# Altium footprint library ART-Pi_STM32H750_COPY.PcbLib: 50 footprints (part 2 of 4)
Each footprint in its own frame and in the unit in brackets; x right, y up, seen from the top. Pads: shape width x height; smd on the part's side, far side on the other; paste and mask are expansions set on the pad; w line width, h text height; cw(c..) or ccw(c..) is an arc to the next point about the centre after c.
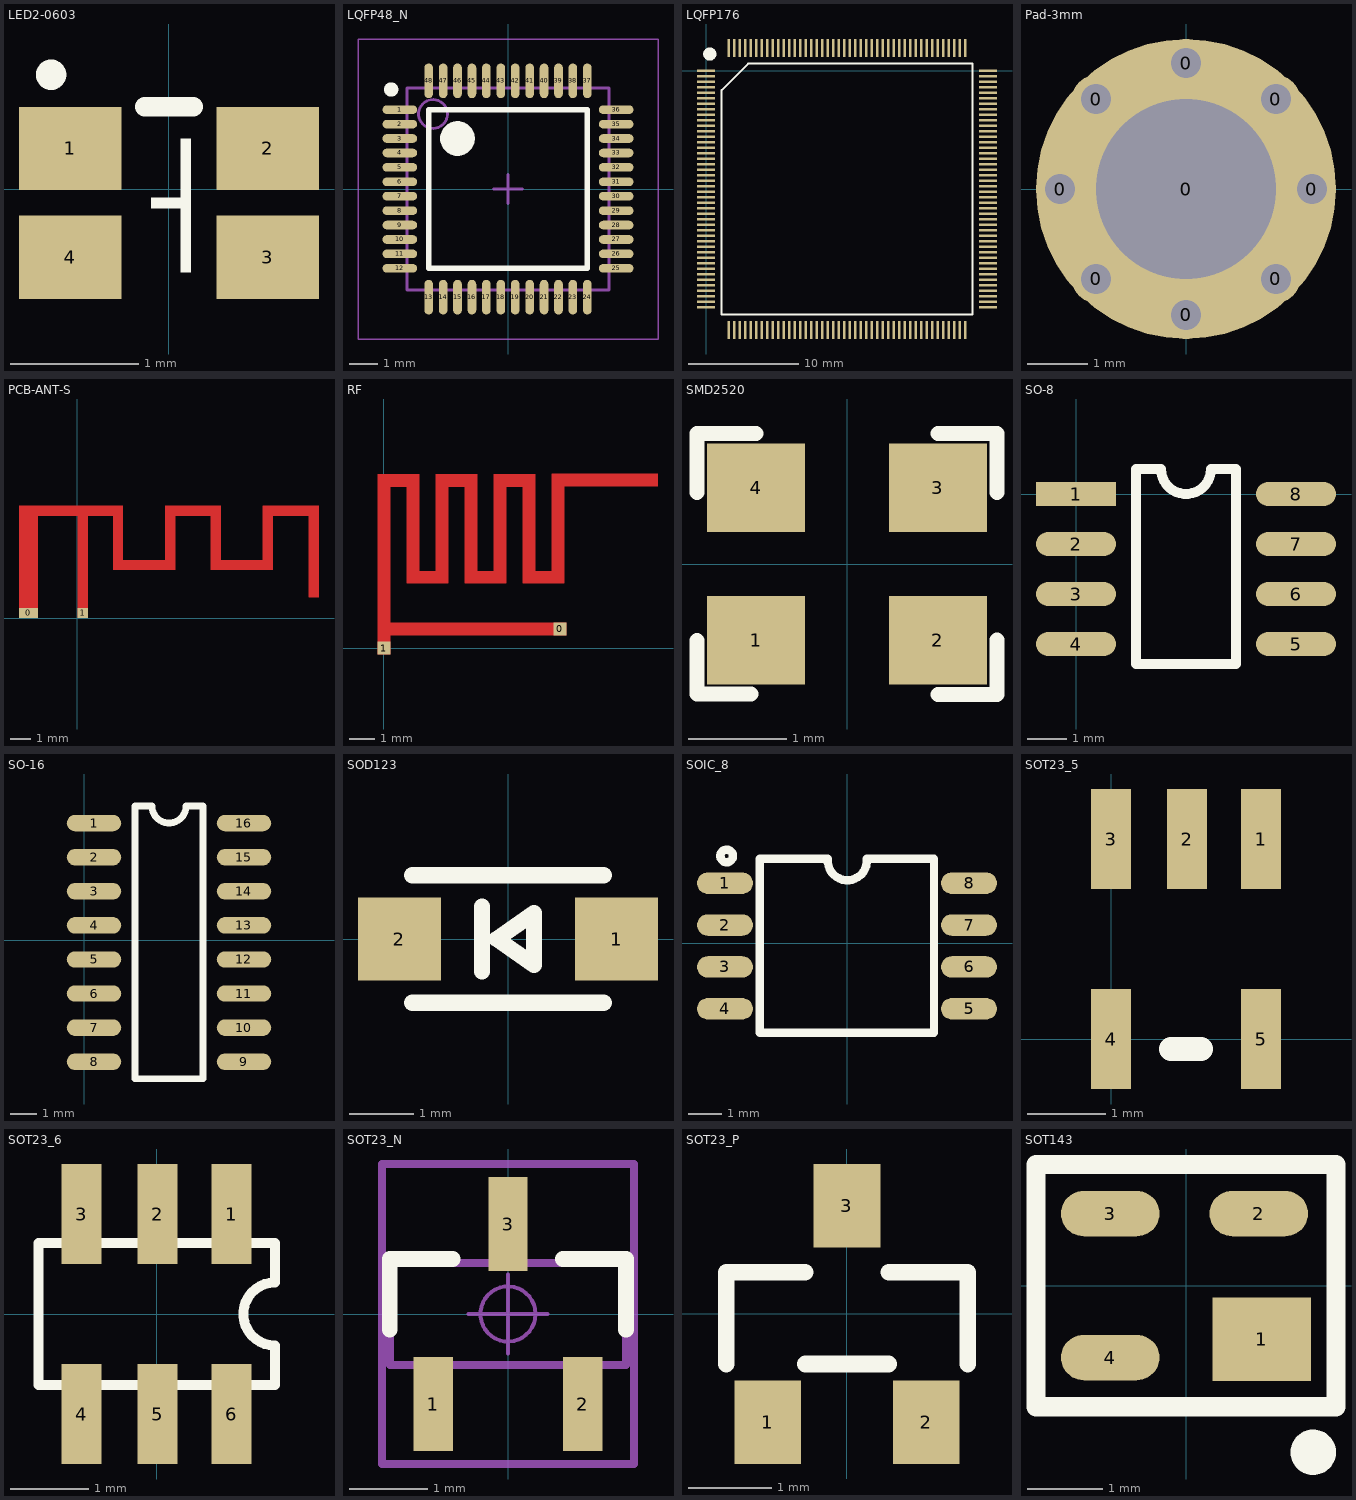
[diagram p1: the footprints below, top view; thin cyan lines are the x and y axes]

## LED2-0603 [mm] "LED-ARRAY-SMD_0603-4P-L1.6-W1.5-TL-RD"
pads (4):
  rect 0.8x0.65 smd: 1(-0.77,0.317) 2(0.77,0.317) 3(0.769,-0.533) 4(-0.77,-0.533)
Top Overlay:
  circle w0.152: c-0.92,0.892 r0.042
  region: 0.09,0.392 0.17,0.392 0.17,-0.648 0.09,-0.648
  region: -0.14,-0.068 0.1,-0.068 0.1,-0.148 -0.14,-0.148
  lines w0.152: -0.19,0.642 0.19,0.642
3D body "led0603_RED.STEP": height 1.1, standoff 0, extent -0.81,-0.121 0.81,0.679
3D body "led0603_GRE.STEP": height 1.1, standoff 0, extent -0.81,-0.908 0.81,-0.108

## LQFP48_N [mm] "Thin QFP, 48-Leads, Body 7x7mm, Pitch 0.5mm, IPC Medium Density"
height 1.6
pads (48):
  oval 1.2x0.3 smd: 1(-3.75,2.75) 2(-3.75,2.25) 3(-3.75,1.75) 4(-3.75,1.25) 5(-3.75,0.75) 6(-3.75,0.25) 7(-3.75,-0.25) 8(-3.75,-0.75) 9(-3.75,-1.25) 10(-3.75,-1.75) 11(-3.75,-2.25) 12(-3.75,-2.75) 25(3.75,-2.75) 26(3.75,-2.25) 27(3.75,-1.75) 28(3.75,-1.25) 29(3.75,-0.75) 30(3.75,-0.25) 31(3.75,0.25) 32(3.75,0.75) 33(3.75,1.25) 34(3.75,1.75) 35(3.75,2.25) 36(3.75,2.75)
  oval 0.3x1.2 smd: 13(-2.75,-3.75) 14(-2.25,-3.75) 15(-1.75,-3.75) 16(-1.25,-3.75) 17(-0.75,-3.75) 18(-0.25,-3.75) 19(0.25,-3.75) 20(0.75,-3.75) 21(1.25,-3.75) 22(1.75,-3.75) 23(2.25,-3.75) 24(2.75,-3.75) 37(2.75,3.75) 38(2.25,3.75) 39(1.75,3.75) 40(1.25,3.75) 41(0.75,3.75) 42(0.25,3.75) 43(-0.25,3.75) 44(-0.75,3.75) 45(-1.25,3.75) 46(-1.75,3.75) 47(-2.25,3.75) 48(-2.75,3.75)
Top Overlay:
  circle w0.6: c-1.75,1.75 r0.3
  circle w0.25: c-4.05,3.45 r0.125
  lines w0.2: -2.75,-2.75 2.75,-2.75 2.75,2.75 -2.75,2.75 -2.75,-2.75
Mechanical 13:
  circle w0.1: c-2.6,2.6 r0.5
  lines w0.1: -3.5,-3.5 3.5,-3.5 3.5,3.5 -3.5,3.5 -3.5,-3.5
Mechanical 15:
  lines w0.05: -5.2,-5.2 5.2,-5.2 5.2,5.2 -5.2,5.2 -5.2,-5.2
  lines w0.1: -0.5,0 0.5,0 ; 0,-0.5 0,0.5
3D body "LQFP48-7x7-0_50.STEP": height 1.46, standoff 0.01, extent -4.475,-4.5 4.525,4.5

## LQFP176 [mm]
pads (176):
  rect 1.65x0.254 smd: 1(0,0) 2(0,-0.5) 3(0,-1) 4(0,-1.5) 5(0,-2) 6(0,-2.5) 7(0,-3) 8(0,-3.5) 9(0,-4) 10(0,-4.5) 11(0,-5) 12(0,-5.5) 13(0,-6) 14(0,-6.5) 15(0,-7) 16(0,-7.5) 17(0,-8) 18(0,-8.5) 19(0,-9) 20(0,-9.5) 21(0,-10) 22(0,-10.5) 23(0,-11) 24(0,-11.5) 25(0,-12) 26(0,-12.5) 27(0,-13) 28(0,-13.5) 29(0,-14) 30(0,-14.5) 31(0,-15) 32(0,-15.5) 33(0,-16) 34(0,-16.5) 35(0,-17) 36(0,-17.5) 37(0,-18) 38(0,-18.5) 39(0,-19) 40(0,-19.5) 41(0,-20) 42(0,-20.5) 43(0,-21) 44(0,-21.5) 89(25.631,-21.5) 90(25.631,-21) 91(25.631,-20.5) 92(25.631,-20) 93(25.631,-19.5) 94(25.631,-19) 95(25.631,-18.5) 96(25.631,-18) 97(25.631,-17.5) 98(25.631,-17) 99(25.631,-16.5) 100(25.631,-16) 101(25.631,-15.5) 102(25.631,-15) 103(25.631,-14.5) 104(25.631,-14) 105(25.631,-13.5) 106(25.631,-13) 107(25.631,-12.5) 108(25.631,-12) 109(25.631,-11.5) 110(25.631,-11) 111(25.631,-10.5) 112(25.631,-10) 113(25.631,-9.5) 114(25.631,-9) 115(25.631,-8.5) 116(25.631,-8) 117(25.631,-7.5) 118(25.631,-7) 119(25.631,-6.5) 120(25.631,-6) 121(25.631,-5.5) 122(25.631,-5) 123(25.631,-4.5) 124(25.631,-4) 125(25.631,-3.5) 126(25.631,-3) 127(25.631,-2.5) 128(25.631,-2) 129(25.631,-1.5) 130(25.631,-1) 131(25.631,-0.5) 132(25.631,0)
  rect 0.254x1.65 smd: 45(2.065,-23.566) 46(2.566,-23.566) 47(3.066,-23.566) 48(3.565,-23.566) 49(4.066,-23.566) 50(4.565,-23.566) 51(5.066,-23.566) 52(5.565,-23.566) 53(6.066,-23.566) 54(6.565,-23.566) 55(7.066,-23.566) 56(7.565,-23.566) 57(8.066,-23.566) 58(8.565,-23.566) 59(9.066,-23.566) 60(9.565,-23.566) 61(10.066,-23.566) 62(10.565,-23.566) 63(11.066,-23.566) 64(11.565,-23.566) 65(12.066,-23.566) 66(12.565,-23.566) 67(13.066,-23.566) 68(13.565,-23.566) 69(14.066,-23.566) 70(14.565,-23.566) 71(15.066,-23.566) 72(15.566,-23.566) 73(16.066,-23.566) 74(16.566,-23.566) 75(17.065,-23.566) 76(17.566,-23.566) 77(18.065,-23.566) 78(18.566,-23.566) 79(19.065,-23.566) 80(19.566,-23.566) 81(20.065,-23.566) 82(20.566,-23.566) 83(21.065,-23.566) 84(21.566,-23.566) 85(22.065,-23.566) 86(22.566,-23.566) 87(23.065,-23.566) 88(23.566,-23.566) 133(23.566,2.065) 134(23.065,2.065) 135(22.566,2.065) 136(22.065,2.065) 137(21.566,2.065) 138(21.065,2.065) 139(20.566,2.065) 140(20.065,2.065) 141(19.566,2.065) 142(19.065,2.065) 143(18.566,2.065) 144(18.065,2.065) 145(17.566,2.065) 146(17.065,2.065) 147(16.566,2.065) 148(16.066,2.065) 149(15.566,2.065) 150(15.066,2.065) 151(14.565,2.065) 152(14.066,2.065) 153(13.565,2.065) 154(13.066,2.065) 155(12.565,2.065) 156(12.066,2.065) 157(11.565,2.065) 158(11.066,2.065) 159(10.565,2.065) 160(10.066,2.065) 161(9.565,2.065) 162(9.066,2.065) 163(8.565,2.065) 164(8.066,2.065) 165(7.565,2.065) 166(7.066,2.065) 167(6.565,2.065) 168(6.066,2.065) 169(5.565,2.065) 170(5.066,2.065) 171(4.565,2.065) 172(4.066,2.065) 173(3.565,2.065) 174(3.066,2.065) 175(2.566,2.065) 176(2.065,2.065)
Top Overlay:
  circle w0.6: c0.335,1.524 r0.3
  lines w0.2: 1.415,-22.15 24.215,-22.15 24.215,0.65 3.825,0.65 1.415,-1.76 1.415,-22.15

## Pad-3mm [mm] "Socket-3*5mm"
pads (9):
  round 0.8 hole 0.5: 0(-2.1,0) 0(-1.5,-1.5) 0(-1.5,1.5) 0(0,-2.1) 0(0,2.1) 0(1.5,-1.5) 0(1.5,1.5) 0(2.1,0)
  round 5 hole 3: 0(0,0)

## PCB-ANT-S [mm] "PCB-ANT-2.4G-S"
pads (2):
  rect 0.9x0.5 smd: 0(-2.35,0.25)
  rect 0.5x0.5 smd: 1(0.25,0.25)
Top Layer:
  rectangle: 0,0 0.5,4.9
  rectangle: -2.8,4.9 2.2,5.4
  rectangle: -2.8,0 -1.9,4.9
  rectangle: 1.7,2.3 2.2,4.9
  rectangle: 2.2,2.3 4.2,2.8
  rectangle: 4.2,2.3 4.7,4.9
  rectangle: 4.2,4.9 6.9,5.4
  rectangle: 6.4,2.3 6.9,4.9
  rectangle: 8.9,4.9 11.6,5.4
  rectangle: 8.9,2.3 9.4,4.9
  rectangle: 6.9,2.3 8.9,2.8
  rectangle: 11.1,1 11.6,4.9

## RF [mil]
pads (2):
  rect 20x20 smd paste+0 mask+0: 0(273,30) 1(0,0)
Top Layer:
  rectangle: 170,250 235,270
  region: 235,100 235,270 215,270 215,100
  rectangle: 215,100 280,120
  region: 280,100 280,270 260,270 260,100
  rectangle: 80,250 145,270
  region: 145,100 145,270 125,270 125,100
  rectangle: 125,100 190,120
  region: 190,100 190,270 170,270 170,100
  region: 100,100 100,270 80,270 80,100
  rectangle: 35,100 100,120
  region: 55,100 55,270 35,270 35,100
  rectangle: -10,250 55,270
  rectangle: -10,-10 10,270
  region: 425,271 260,271 260,251 425,251
  region: 283,40 -10,40 -10,20 283,20
Top Solder:
  region: 283,40 -10,40 -10,20 283,20
  region: 425,271 260,271 260,251 425,251
  region: 280,100 280,270 260,270 260,100
  rectangle: 215,100 280,120
  region: 235,100 235,270 215,270 215,100
  rectangle: 170,250 235,270
  region: 190,100 190,270 170,270 170,100
  rectangle: 125,100 190,120
  region: 145,100 145,270 125,270 125,100
  rectangle: 80,250 145,270
  region: 100,100 100,270 80,270 80,100
  rectangle: 35,100 100,120
  region: 55,100 55,270 35,270 35,100
  rectangle: -10,250 55,270
  rectangle: -10,-10 10,270

## SMD2520 [mm]
pads (4):
  rect 1x0.9 smd: 1(-0.925,-0.775) 2(0.925,-0.775) 3(0.925,0.775) 4(-0.925,0.775)
Top Overlay:
  lines w0.152: -1.525,-0.775 -1.525,-1.324 -0.976,-1.324 ; -1.525,0.725 -1.525,1.325 -0.925,1.325 ; 0.925,-1.325 1.525,-1.325 1.525,-0.775 ; 0.925,1.325 1.525,1.325 1.525,0.725
3D body "TSX3225-4P.STEP": height 0.6, standoff 0, extent -1.549,-1.295 1.651,1.205

## SO-8 [mil]
pads (8):
  rect 80x24 smd: 1(0,0)
  oval 80x24 smd: 2(0,-50) 3(0,-100) 4(0,-150) 5(220,-150) 6(220,-100) 7(220,-50) 8(220,0)
Top Overlay:
  lines w10: 60,-170 60,25 85,25 ccw(c110,25) 135,25 160,25 160,-170 60,-170
3D body "SO8.STEP": height 57, standoff 0, extent -10.24,-171 217.25,22

## SO-16 [mil]
pads (16):
  oval 80x24 smd: 1(14,172) 2(14,122) 3(14,72) 4(14,22) 5(14,-28) 6(14,-78) 7(14,-128) 8(14,-178) 9(234,-178) 10(234,-128) 11(234,-78) 12(234,-28) 13(234,22) 14(234,72) 15(234,122) 16(234,172)
Top Overlay:
  lines w10: 74,-203 174,-203 174,197 149,197 cw(c124,197) 99,197 74,197 74,-203
3D body "SO16.STEP": height 57, standoff 0, extent 7.76,-199 240.25,194

## SOD123 [mm] "SOD-123FL_L2.6-W1.6-LS3.4-RD"
pads (2):
  rect 1.3x1.3 smd: 1(1.7,0) 2(-1.7,0)
Top Overlay:
  lines w0.254: -1.5,-1 1.5,-1 ; -1.5,1 1.5,1 ; -0.406,-0.508 -0.406,0.508 ; -0.178,0 0.406,0.406 0.406,-0.406 -0.178,0

## SOIC_8 [mm] "SOIC-8_L5.3-W5.3-P1.27-LS8.0-BL"
pads (8):
  oval 1.698x0.65 smd: 1(-3.7,1.823) 2(-3.7,0.553) 3(-3.7,-0.717) 4(-3.7,-1.987) 5(3.7,-1.987) 6(3.7,-0.717) 7(3.7,0.553) 8(3.7,1.823)
Top Overlay:
  circle w0.254: c-3.65,2.648 r0.191
  lines w0.254: -0.58,2.548 ccw(c0.01,2.504) 0.6,2.548 ; -0.58,2.558 -2,2.558 -2.65,2.558 -2.65,-2.712 2.64,-2.712 2.64,2.558 2,2.558 0.6,2.558
3D body "SOIC8.STEP": height 2.29, standoff -0.03, extent -4.222,-2.792 4.171,2.588

## SOT23_5 [mil]
pads (5):
  rect 20x50 smd: 1(75,100) 2(38,100) 3(0,100) 4(0,0) 5(75,0)
Top Overlay:
  lines w12: 30,-5 45,-5

## SOT23_6 [mil]
pads (6):
  rect 20x50 smd: 1(37.5,50) 2(0.5,50) 3(-37.5,50) 4(-37.5,-50) 5(0.5,-50) 6(37.5,-50)
Top Overlay:
  lines w5: -59.06,-35.43 -59.06,35.43 59.06,35.43 59.06,15.75 ccw(c59.06,0) 59.06,-15.75 59.06,-35.43 -59.06,-35.43
3D body "SOT-23-6.STEP": height 43, standoff 0, extent -54.5,-45 55.5,50.5

## SOT23_N [mm] "3x1.3x1mm(长宽高)"
height 1.1
pads (3):
  rect 0.5x1.2 smd: 1(-0.95,-1.143) 2(0.95,-1.143) 3(0,1.143)
Top Overlay:
  lines w0.2: -1.501,-0.2 -1.501,0.7 -0.701,0.7 ; 0.699,0.7 1.499,0.7 1.499,-0.2
Mechanical 13:
  lines w0.1: -1.5,-0.65 -1.5,0.65 1.5,0.65 1.5,-0.65 -1.5,-0.65
Mechanical 15:
  circle w0.05: c0,0 r0.35
  lines w0.05: -0.5,0 0.5,0 ; 0,-0.5 0,0.5
  lines w0.1: -1.6,-1.905 -1.6,1.905 1.6,1.905 1.6,-1.905 -1.6,-1.905
3D body "SOT23-3.STEP": height 1.05, standoff 0, extent -1.5,-1.2 1.5,1.2

## SOT23_P [mm]
pads (3):
  rect 0.8x1 smd: 1(-0.95,-1.3) 2(0.95,-1.3) 3(0,1.3)
Top Overlay:
  lines w0.2: -1.45,-0.6 -1.45,0.5 -0.5,0.5 ; -0.5,-0.6 0.5,-0.6 ; 0.5,0.5 1.45,0.5 1.45,-0.6
3D body "SOT-23-3.STEP": height 1.2, standoff 0, extent -1.425,-1.451 1.475,1.349

## SOT143 [mm]
height 1.6
pads (4):
  rect 1.3x1.1 smd: 1(1,-0.71)
  oval 1.3x0.6 smd: 2(0.96,0.95) 3(-1,0.95) 4(-1,-0.95)
Top Overlay:
  circle w0.3: c1.68,-2.2 r0.15
  lines w0.254: -1.98,-1.6 -1.98,1.6 1.98,1.6 1.98,-1.6 -1.98,-1.6
3D body "User Library-SOT-143.STEP": height 1, standoff 0, extent -1.23,-1.46 1.19,1.46